# EAGLE library part CORE_IOHEAD (library expboard)
CoreCard IO-header for expansion cards
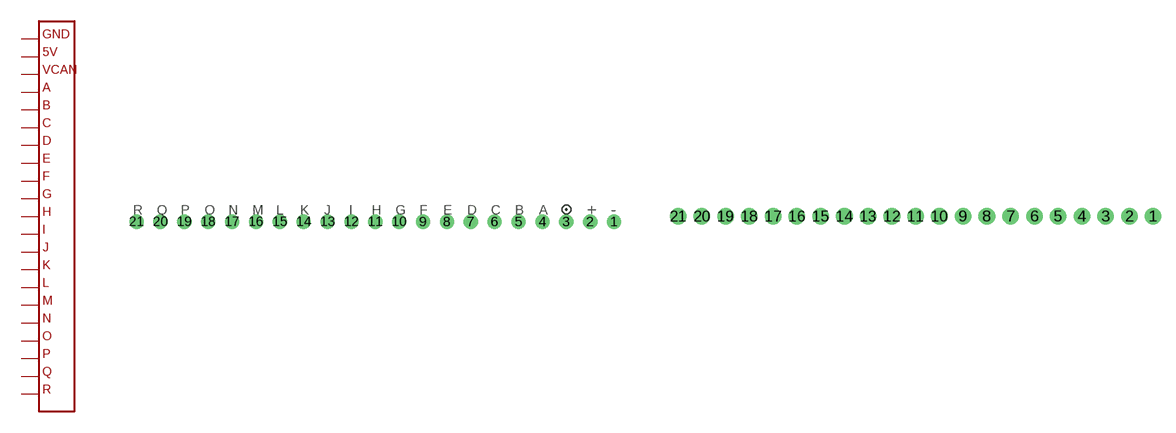
[diagram p7: symbol with the pads of CORE_IOHEAD; footprints CORE_IOHEAD, CORE_IOHEAD_NOSILC]

Designator prefix X

## CORE_IOHEADCORE  [CORE_IOHEAD]
1  1
2  2
3  3
4  4
5  5
6  6
7  7
8  8
9  9
10  10
11  11
12  12
13  13
14  14
15  15
16  16
17  17
18  18
19  19
20  20
21  21

## CORE_IOHEADEXP  [CORE_IOHEAD_NOSILC]
Pads as for CORE_IOHEAD

## Footprint CORE_IOHEAD (pad centres in mm)
IO-header for CoreCard expansions
drill 1 round: 1 25.4,0; 2 22.86,0; 3 20.32,0; 4 17.78,0; 5 15.24,0; 6 12.7,0; 7 10.16,0; 8 7.62,0; 9 5.08,0; 10 2.54,0; 11 0,0; 12 -2.54,0; 13 -5.08,0; 14 -7.62,0; 15 -10.16,0; 16 -12.7,0; 17 -15.24,0; 18 -17.78,0; 19 -20.32,0; 20 -22.86,0; 21 -25.4,0

## Footprint CORE_IOHEAD_NOSILC (pad centres in mm)
drill 1 pad 1.778 round: 1 25.4,0; 2 22.86,0; 3 20.32,0; 4 17.78,0; 5 15.24,0; 6 12.7,0; 7 10.16,0; 8 7.62,0; 9 5.08,0; 10 2.54,0; 11 0,0; 12 -2.54,0; 13 -5.08,0; 14 -7.62,0; 15 -10.16,0; 16 -12.7,0; 17 -15.24,0; 18 -17.78,0; 19 -20.32,0; 20 -22.86,0; 21 -25.4,0